# Altium schematic symbol library SnapEDAsch.SchLib: 1 symbol
Pins are listed as number, name and electrical type; pins without a type are passive.

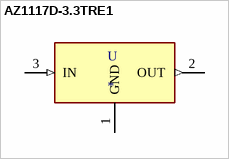
[diagram p0: symbol AZ1117D-3.3TRE1]

## AZ1117D-3.3TRE1
designator U
Linear Voltage Regulator IC 1 Output 1A TO-252-2; MF: Diodes Inc.; MP: AZ1117D-3.3TRE1; Availability: Unavailable; Price: None; SnapEDA_Link: https://www.snapeda.com/parts/AZ1117D-3.3TRE1/Diodes%20Inc./view-part/856390/?ref=snap; Package: TO-252-2 Diodes Inc.; Value: *
footprint DPAK457P1010X238-3N
pins: 1 GND (power), 2 OUT (out), 3 IN (in)